# Altium footprint library DLW5BS.PcbLib: 1 footprints
Each footprint in its own frame and in the unit in brackets; x right, y up, seen from the top. Pads: shape width x height; smd on the part's side, far side on the other; paste and mask are expansions set on the pad; w line width, h text height; cw(c..) or ccw(c..) is an arc to the next point about the centre after c.
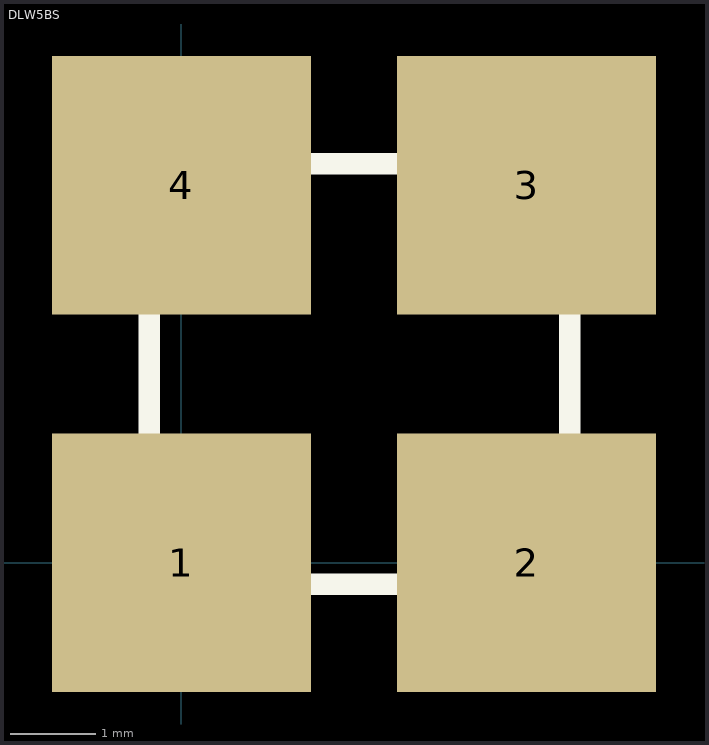
[diagram p0: the footprint, top view; thin cyan lines are the x and y axes]

## DLW5BS [mil]
pads (4):
  rect 120x120 smd: 1(0,0) 2(160,0) 3(160,175) 4(0,175)
Top Overlay:
  circle w10: c-30,-40 r5
  lines w10: -15,20 15,-10 180,-10 180,185 -15,185 -15,20
3D body: height 200, standoff 0, extent -15,-10 180,185